# Altium footprint library Arduino_Nano.PcbLib: 1 footprints
Each footprint in its own frame and in the unit in brackets; x right, y up, seen from the top. Pads: shape width x height; smd on the part's side, far side on the other; paste and mask are expansions set on the pad; w line width, h text height; cw(c..) or ccw(c..) is an arc to the next point about the centre after c.
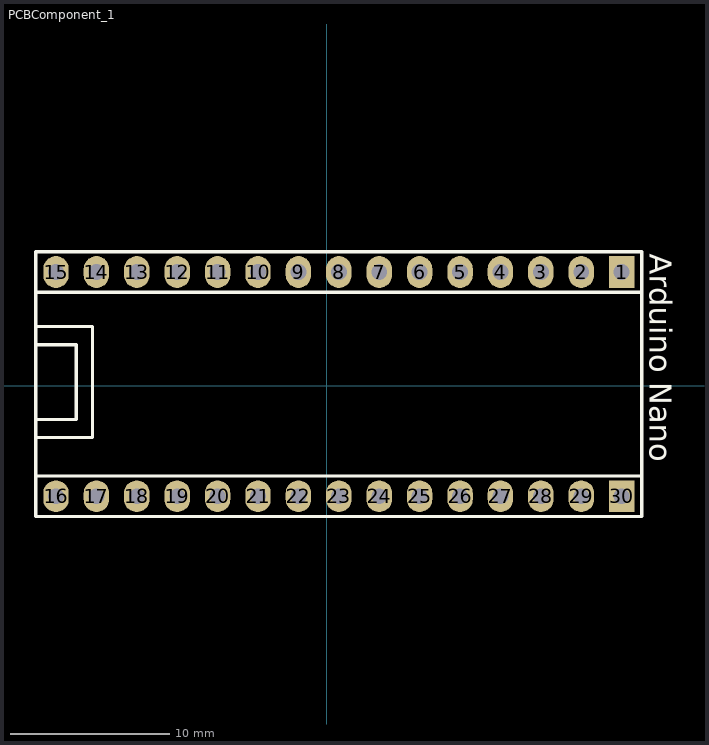
[diagram p0: the footprint, top view; thin cyan lines are the x and y axes]

## PCBComponent_1 [mm]
pads (30):
  rect 1.6x2 hole 1: 1(18.54,7.161) 30(18.54,-6.936)
  oval 1.6x2 hole 1: 2(16,7.161) 3(13.46,7.161) 4(10.92,7.161) 5(8.38,7.161) 6(5.84,7.161) 7(3.3,7.161) 8(0.76,7.161) 9(-1.78,7.161) 10(-4.32,7.161) 11(-6.86,7.161) 12(-9.4,7.161) 13(-11.94,7.161) 14(-14.48,7.161) 15(-17.02,7.161) 16(-17.02,-6.936) 17(-14.48,-6.936) 18(-11.94,-6.936) 19(-9.4,-6.936) 20(-6.86,-6.936) 21(-4.32,-6.936) 22(-1.78,-6.936) 23(0.76,-6.936) 24(3.3,-6.936) 25(5.84,-6.936) 26(8.38,-6.936) 27(10.92,-6.936) 28(13.46,-6.936) 29(16,-6.936)
Top Overlay:
  lines w0.2: -18.29,-7.19 -18.29,7.161 ; -18.29,-3.126 -18.29,-3.253 -14.734,-3.253 -14.734,3.732 -18.29,3.732 ; -18.29,-2.11 -15.75,-2.11 -15.75,2.589 -18.29,2.589 ; 19.81,-7.825 19.81,8.304 ; -18.29,-8.206 17.905,-8.206 19.81,-8.206 19.81,-5.666 -18.29,-5.666 -18.29,-8.206 ; -18.29,5.891 17.905,5.891 19.81,5.891 19.81,8.431 -18.29,8.431 -18.29,5.891
  text "Arduino Nano" at 20.318,8.304 h1.4